# EAGLE library part TPS5405DR (library TPS5405DR)
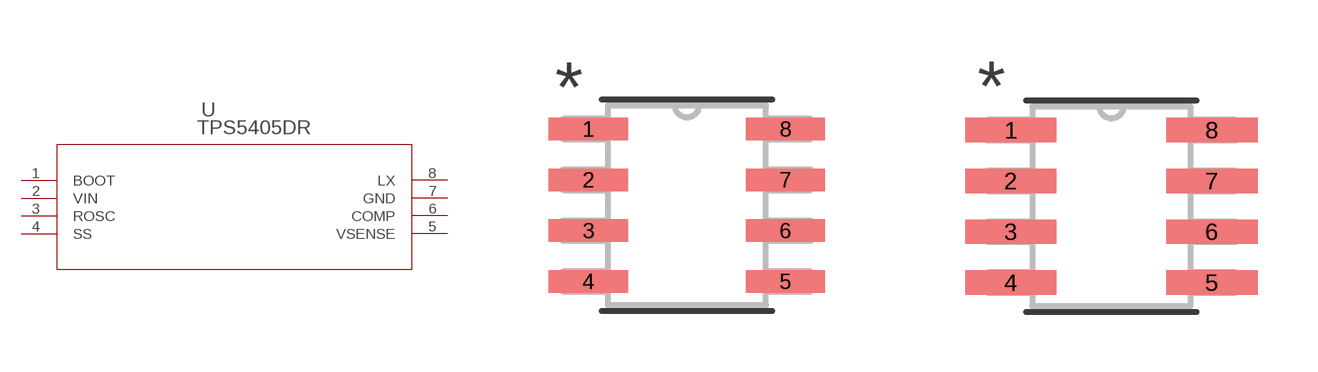
[diagram p0: symbol with the pads of D8; footprints D8, D8-M]

Designator prefix U

## TPS5405DR (MANUFACTURER_PART_NUMBER: tps5405dr; VENDOR: TEXAS INSTRUMENTS)  [D8]
1  BOOT  pas
2  VIN  in
3  ROSC  pas
4  SS  pas
5  VSENSE  out
6  COMP  out
7  GND  pwr
8  LX  pas

## TPS5405DRD8-M (MANUFACTURER_PART_NUMBER: tps5405dr; VENDOR: TEXAS INSTRUMENTS)  [D8-M]
Pads as for D8

## TPS5405DRD8-L (MANUFACTURER_PART_NUMBER: tps5405dr; VENDOR: TEXAS INSTRUMENTS)  [D8-L]
Pads as for D8

## Footprint D8 (pad centres in mm)
smd 1.981 x 0.559: 1 -2.464,1.905; 2 -2.464,0.635; 3 -2.464,-0.635; 4 -2.464,-1.905; 5 2.464,-1.905; 6 2.464,-0.635; 7 2.464,0.635; 8 2.464,1.905

## Footprint D8-M (pad centres in mm)
smd 2.286 x 0.61: 1 -2.515,1.905; 2 -2.515,0.635; 3 -2.515,-0.635; 4 -2.515,-1.905; 5 2.515,-1.905; 6 2.515,-0.635; 7 2.515,0.635; 8 2.515,1.905

## Footprint D8-L (pad centres in mm)
smd 1.676 x 0.508: 1 -2.413,1.905; 2 -2.413,0.635; 3 -2.413,-0.635; 4 -2.413,-1.905; 5 2.413,-1.905; 6 2.413,-0.635; 7 2.413,0.635; 8 2.413,1.905